# Altium footprint library LED.PCBLIB: 68 footprints (part 5 of 5)
Each footprint in its own frame and in the unit in brackets; x right, y up, seen from the top. Pads: shape width x height; smd on the part's side, far side on the other; paste and mask are expansions set on the pad; w line width, h text height; cw(c..) or ccw(c..) is an arc to the next point about the centre after c.
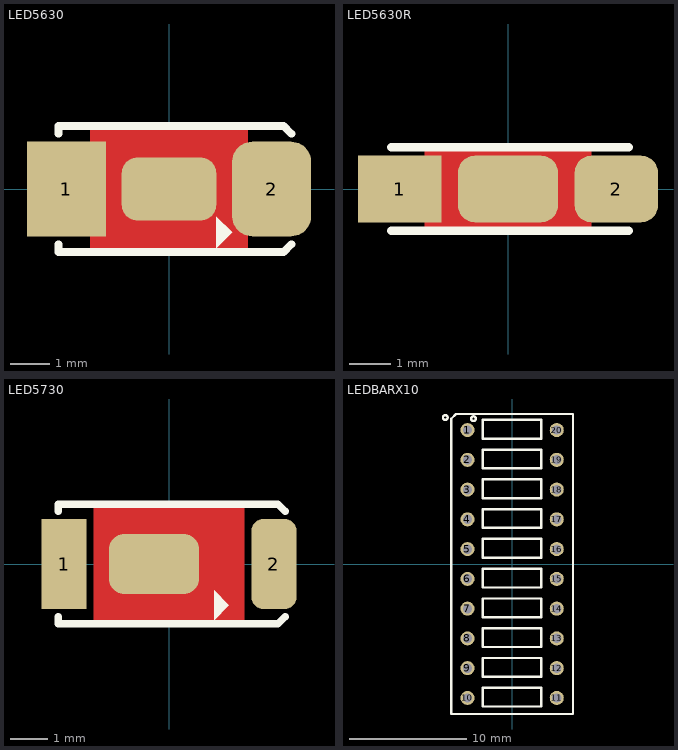
[diagram p4: the footprints below, top view; thin cyan lines are the x and y axes]

## LED5630 [mm] "LED 5.6mmX3mm"
pads (3):
  rect 2x2.4 smd mask+0.1: 1(-2.6,0)
  rrect50% 2x2.4 smd mask+0.1: 2(2.6,0)
  rrect50% 2.4x1.6 smd mask+0.075: ""(0,0)
TopLayer:
  pour cut-out: -2,1.6 2,1.6 2,-1.6 -2,-1.6
TopOverlay:
  region: 1.6,-1.1 1.2,-0.7 1.2,-1.5
  lines w0.2: -2.8,-1.4 -2.8,-1.6 2.9,-1.6 3.1,-1.4 ; -2.8,1.4 -2.8,1.6 2.9,1.6 3.1,1.4
3D body "User Library-LED_5630.step": height 0.86, standoff -0.04, extent -2.8,-1.5 2.8,1.5

## LED5630R [mm] "LED 5.6mmX3mm"
pads (3):
  rect 2x1.6 smd mask+0.1: 1(-2.6,0)
  rrect50% 2x1.6 smd mask+0.1: 2(2.6,0)
  rrect50% 2.4x1.6 smd mask+0.075: ""(0,0)
TopLayer:
  pour cut-out: -2,1 2,1 2,-1 -2,-1
TopOverlay:
  lines w0.2: -2.8,-1 2.9,-1 ; -2.8,1 2.9,1
3D body "User Library-LED_5630.step": height 2.94, standoff -0.06, extent -2.8,-0.45 2.8,0.45

## LED5730 [mm] "LED 5.7mmX3mm"
pads (3):
  rect 1.2x2.4 smd mask+0.1: 1(-2.8,0)
  rrect50% 1.2x2.4 smd mask+0.1: 2(2.8,0)
  rrect50% 2.4x1.6 smd mask+0.075: ""(-0.4,0)
TopLayer:
  pour cut-out: -2,1.6 2,1.6 2,-1.6 -2,-1.6
TopOverlay:
  region: 1.6,-1.1 1.2,-0.7 1.2,-1.5
  lines w0.2: -2.95,-1.4 -2.95,-1.6 2.9,-1.6 3.1,-1.4 ; -2.95,1.4 -2.95,1.6 2.9,1.6 3.1,1.4
3D body "User Library-PLCC-2white.step": height 0.9, standoff 0, extent -2.85,-1.5 2.85,1.5

## LEDBARX10 [mm] "LED BAR GRAPH, pitch: 2.54mm,  CLSRD10A SSA-LXB10HW-GF"
pads (20):
  round 1.2 / inner round 1.2 / far side oval 2x1.2 hole 0.8: 1(-3.81,11.43) 2(-3.81,8.89) 3(-3.81,6.35) 4(-3.81,3.81) 5(-3.81,1.27) 6(-3.81,-1.27) 7(-3.81,-3.81) 8(-3.81,-6.35) 9(-3.81,-8.89) 10(-3.81,-11.43) 11(3.81,-11.43) 12(3.81,-8.89) 13(3.81,-6.35) 14(3.81,-3.81) 15(3.81,-1.27) 16(3.81,1.27) 17(3.81,3.81) 18(3.81,6.35) 19(3.81,8.89) 20(3.81,11.43)
TopOverlay:
  circle w0.2: c-3.3,12.4 r0.2
  circle w0.2: c-5.7,12.5 r0.2
  lines w0.2: -5.2,-12.8 5.2,-12.8 5.2,12.8 -4.8,12.8 -5.2,12.4 -5.2,-12.8 ; -2.5,-12.16 -2.5,-10.56 2.5,-10.56 2.5,-12.16 -2.5,-12.16 ; -2.5,-9.62 -2.5,-8.02 2.5,-8.02 2.5,-9.62 -2.5,-9.62 ; -2.5,-7.08 -2.5,-5.48 2.5,-5.48 2.5,-7.08 -2.5,-7.08 ; -2.5,-4.54 -2.5,-2.94 2.5,-2.94 2.5,-4.54 -2.5,-4.54 ; -2.5,-2 -2.5,-0.4 2.5,-0.4 2.5,-2 -2.5,-2 ; -2.5,0.54 -2.5,2.14 2.5,2.14 2.5,0.54 -2.5,0.54 ; -2.5,3.08 -2.5,4.68 2.5,4.68 2.5,3.08 -2.5,3.08 ; -2.5,5.62 -2.5,7.22 2.5,7.22 2.5,5.62 -2.5,5.62 ; -2.5,8.16 -2.5,9.76 2.5,9.76 2.5,8.16 -2.5,8.16 ; -2.5,10.7 2.5,10.7 2.5,12.3 -2.5,12.3 -2.5,10.7
3D body "User Library-LED_BAR_10.step": height 6.8, standoff -7, extent -5.08,-12.7 5.08,12.7